# Altium footprint library wide.PcbLib: 1 footprints
Each footprint in its own frame and in the unit in brackets; x right, y up, seen from the top. Pads: shape width x height; smd on the part's side, far side on the other; paste and mask are expansions set on the pad; w line width, h text height; cw(c..) or ccw(c..) is an arc to the next point about the centre after c.
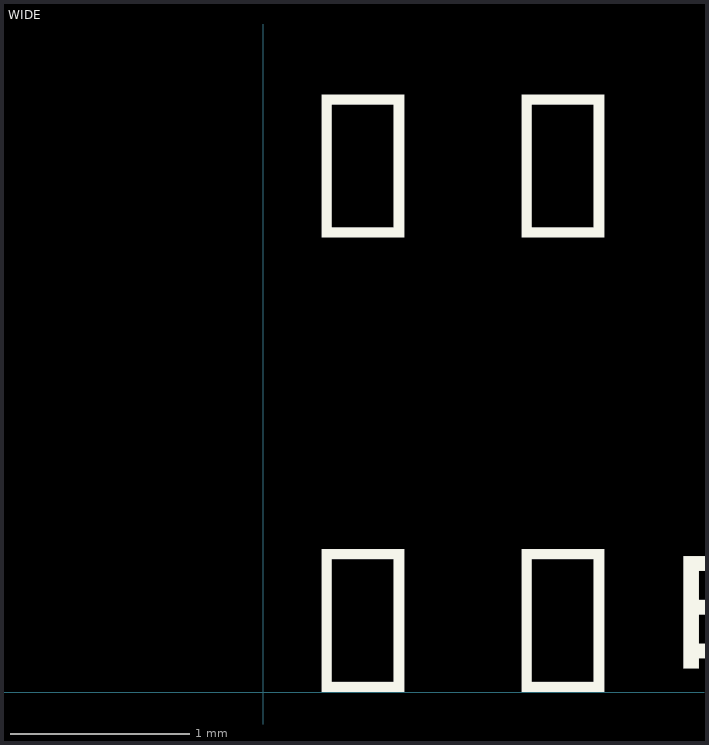
[diagram p0: the footprint, top view; thin cyan lines are the x and y axes]

## WIDE [mm]
Top Overlay:
  text "µΩ电" at 0,0 h1.02
  text "??" at 0,2.54 h1.02
3D body: height 1.02, standoff 0, extent -1.27,-0.762 1.27,0.762
3D body: height 1.02, standoff 0, extent -1.27,-0.762 1.27,0.762